# Altium footprint library Magnetics.PcbLib: 15 footprints
Each footprint in its own frame and in the unit in brackets; x right, y up, seen from the top. Pads: shape width x height; smd on the part's side, far side on the other; paste and mask are expansions set on the pad; w line width, h text height; cw(c..) or ccw(c..) is an arc to the next point about the centre after c.
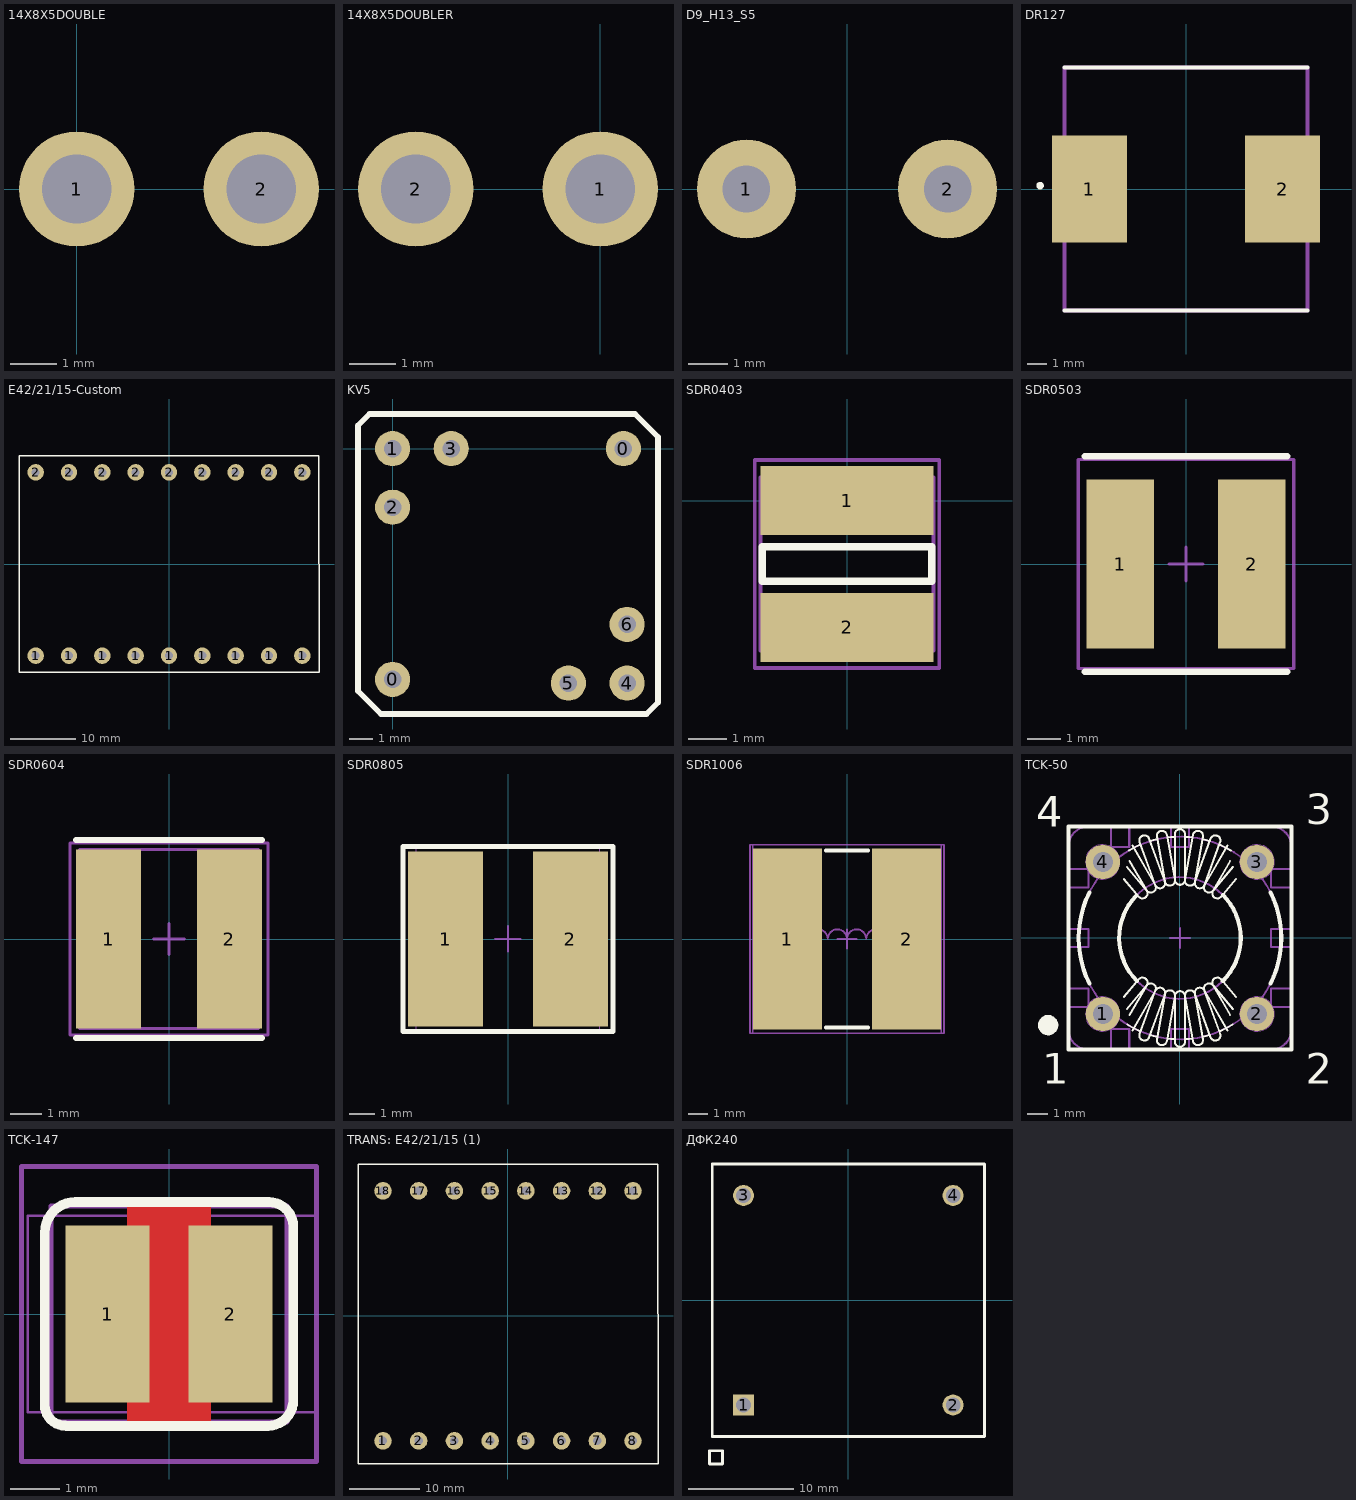
[diagram p0: the footprints below, top view; thin cyan lines are the x and y axes]

## 14X8X5DOUBLE [mm]
pads (2):
  round 2.5 hole 1.5 unplated: 1(0,0) 2(4,0)
3D body "CHOKE.stp": height 12.85, standoff 0.15, extent -1.35,-18.363 15.229,-1.827

## 14X8X5DOUBLER [mm]
pads (2):
  round 2.5 hole 1.5 unplated: 1(0,0) 2(-4,0)
3D body "CHOKE.stp": height 12.7, standoff 0, extent -14.35,-18.363 2.229,-1.827

## D9_H13_S5 [mm]
pads (2):
  round 2.5 hole 1.2: 1(-2.54,0) 2(2.54,0)
3D body "rlb0914_1.stp": height 11.14, standoff -1.56, extent -4.199,-4.199 4.199,4.199

## DR127 [mm]
pads (2):
  rect 3.85x5.5 smd: 1(-4.975,0) 2(4.975,0)
Top Overlay:
  circle w0.2: c-7.516,0.171 r0.092
  lines w0.2: -6.25,-6.25 6.25,-6.25 ; -6.25,6.25 6.25,6.25
Mechanical 13:
  lines w0.2: -6.25,-6.25 6.25,-6.25 6.25,6.25 -6.25,6.25 -6.25,-6.25
3D body "User Library-DR127.step": height 8.01, standoff 0.01, extent -6.25,-6.25 6.25,6.25

## E42/21/15-Custom [mm]
pads (18):
  round 2.5 hole 1.2: 1(-20.32,-13.97) 1(-15.24,-13.97) 1(-10.16,-13.97) 1(-5.08,-13.97) 1(0,-13.97) 1(5.08,-13.97) 1(10.16,-13.97) 1(15.24,-13.97) 1(20.32,-13.97) 2(-20.32,13.97) 2(-15.24,13.97) 2(-10.16,13.97) 2(-5.08,13.97) 2(0,13.97) 2(5.08,13.97) 2(10.16,13.97) 2(15.24,13.97) 2(20.32,13.97)
Top Overlay:
  lines w0.2: -22.86,-16.51 22.86,-16.51 22.86,16.51 -22.86,16.51 -22.86,-16.51
3D body "EER42 9X9.step": height 46.62, standoff -3.5, extent -22.5,-16.05 22.5,16.05

## KV5 [mil]
pads (8):
  round 60 hole 30: 0(0,-393.7) 0(393.7,0) 1(0,0) 2(0,-100) 3(100,0) 4(399.98,-399.98) 5(299.98,-399.98) 6(399.98,-299.98)
Top Overlay:
  lines w10: -59.06,-413.39 -19.69,-452.76 433.07,-452.76 452.76,-433.07 452.76,19.68 413.39,59.06 -39.37,59.06 -59.06,39.37 -59.06,-413.39
3D body "RM5-K-6P-SS.STEP": height 413.89, standoff -71.15, extent -222.97,-622.97 622.97,222.97

## SDR0403 [mm]
pads (2):
  rect 4.5x1.8 smd: 1(0,0) 2(0,-3.3)
Top Overlay:
  lines w0.2: -2.2,-2.1 2.2,-2.1 2.2,-1.2 -2.2,-1.2 -2.2,-2.1
Mechanical 1:
  lines w0.1: -2.25,-3.9 -2.25,0.25 -2.25,0.6 2.25,0.6 2.25,-3.9 -2.25,-3.9
Mechanical 15:
  lines w0.1: -2.4,-4.35 2.4,-4.35 2.4,1.05 -2.4,1.05 -2.4,-4.35
3D body "User Library-SDR0403.STEP": height 3.5, standoff 0, extent -2.25,-3.9 2.25,0.6

## SDR0503 [mm]
pads (2):
  rect 2x5 smd: 1(-1.95,0) 2(1.95,0)
Top Overlay:
  lines w0.2: -3,-3.2 3,-3.2 ; -3,3.2 3,3.2
Mechanical 15:
  lines w0.1: -0.5,0 0.5,0 ; 0,-0.5 0,0.5 ; -3.2,-3.1 -3.2,3.1 3.2,3.1 3.2,-3.1 -3.2,-3.1
3D body "sdr0503-153jl.stp": height 3.01, standoff 0.01, extent -2.5,-2.5 2.5,2.5

## SDR0604 [mm]
pads (2):
  rect 2.1x5.8 smd: 1(-1.95,0) 2(1.95,0)
Top Overlay:
  lines w0.2: -3,-3.2 3,-3.2 ; -3,3.2 3,3.2
Mechanical 1:
  lines w0.1: -2.9,-2.9 -2.9,2.9 2.9,2.9 2.9,-2.9 -2.9,-2.9
Mechanical 15:
  lines w0.1: -0.5,0 0.5,0 ; 0,-0.5 0,0.5 ; -3.2,-3.1 -3.2,3.1 3.2,3.1 3.2,-3.1 -3.2,-3.1
3D body "SDR0604.STEP": height 4.8, standoff 0, extent -2.9,-2.9 2.9,2.9

## SDR0805 [mm]
height 5.3
pads (2):
  rect 3x7 smd: 1(-2.5,0) 2(2.5,0)
Top Overlay:
  lines w0.2: -4.2,-3.7 4.2,-3.7 4.2,3.7 -4.2,3.7 -4.2,-3.7
Mechanical 1:
  lines w0.05: -3.675,-3.75 3.675,-3.75 3.675,3.75 -3.675,3.75 -3.675,-3.75
Mechanical 15:
  lines w0.1: -0.5,0 0.5,0 ; 0,-0.5 0,0.5 ; -4.2,-3.7 -4.2,3.725 4.2,3.725 4.2,-3.7 -4.2,-3.7
3D body "SDR0805.STEP": height 5.08, standoff 0.03, extent -3.677,-3.75 3.677,3.75

## SDR1006 [mm]
pads (2):
  rect 3.6x9.4 smd: 1(-3.1,0) 2(3.1,0)
Top Overlay:
  lines w0.2: -1.1,-4.6 1.1,-4.6 ; -1.1,4.6 1.1,4.6
Mechanical 1:
  lines w0.1: -4.2,0 -3,0 cw(c-2.5,0) -2,0 cw(c-1.5,0) -1,0 cw(c-0.5,0) 0,0 cw(c0.5,0) 1,0 cw(c1.5,0) 2,0 cw(c2.5,0) 3,0 4.2,0 ; -4.9,-4.9 4.9,-4.9 4.9,4.9 -4.9,4.9 -4.9,-4.9
Mechanical 15:
  lines w0.1: -0.5,0 0.5,0 ; 0,-0.5 0,0.5 ; -5.05,-4.9 -5.05,4.9 5.05,4.9 5.05,-4.9 -5.05,-4.9
3D body "SDR1006.STEP": height 5.8, standoff 0, extent -4.9,-4.9 4.9,4.9

## TCK-50 [mm] "Common Mode Choke TCK-048"
height 9.8
pads (4):
  round 1.7 hole 1: 1(-3.8,-3.75) 2(3.8,-3.75) 3(3.8,3.75) 4(-3.8,3.75)
Top Overlay:
  circle w0.5: c-6.5,-4.3 r0.25
  lines w0.1: -2.762,-2.904 -2.039,-2.042 cw(c-1.848,-2.202) -1.657,-2.363 -2.621,-3.512 ; -2.762,2.904 -2.039,2.042 ccw(c-1.848,2.202) -1.657,2.363 -2.621,3.512 ; -2.587,-4.279 ccw(c0,0) -1.943,-4.607 ; -2.513,4.323 cw(c0,0) -1.943,4.607 ; -2.48,-3.795 -1.654,-2.365 cw(c-1.438,-2.489) -1.221,-2.614 -2.347,-4.563 ; -2.48,3.795 -1.654,2.365 ccw(c-1.438,2.489) -1.221,2.614 -2.347,4.563 ; -1.473,-4.778 ccw(c0,0) -1.113,-4.874 ; -1.473,4.778 cw(c0,0) -1.113,4.874 ; -0.621,-4.961 ccw(c0,0) -0.25,-4.994 ; -0.621,4.961 cw(c0,0) -0.25,4.994 ; 0.25,-4.994 ccw(c0,0) 0.621,-4.961 ; 0.25,4.994 cw(c0,0) 0.621,4.961 ; 1.113,-4.875 ccw(c0,0) 1.473,-4.778 ; 1.113,4.875 cw(c0,0) 1.473,4.778 ; 1.942,-4.607 ccw(c0,0) 2.587,-4.279 ; 1.942,4.607 cw(c0,0) 2.513,4.323 ; 2.347,-4.563 1.221,-2.614 cw(c1.438,-2.489) 1.654,-2.365 2.48,-3.795 ; 2.347,4.563 1.221,2.614 ccw(c1.438,2.489) 1.654,2.365 2.48,3.795 ; 2.621,-3.512 1.657,-2.363 cw(c1.848,-2.202) 2.039,-2.042 2.762,-2.904 ; 2.621,3.512 1.657,2.363 ccw(c1.848,2.202) 2.039,2.042 2.762,2.904 ; -1.988,4.732 cw(c-1.751,4.809) -1.518,4.901 -0.749,2.787 cw(c-0.983,2.701) -1.218,2.616 -1.988,4.732 ; -1.987,-4.731 ccw(c-1.75,-4.809) -1.519,-4.903 -0.748,-2.787 ccw(c-0.983,-2.701) -1.218,-2.616 -1.987,-4.731 ; -1.136,5.005 cw(c-0.889,5.04) -0.644,5.091 -0.253,2.875 cw(c-0.499,2.831) -0.745,2.788 -1.136,5.005 ; -1.136,-5.004 ccw(c-0.888,-5.04) -0.644,-5.092 -0.253,-2.875 ccw(c-0.499,-2.831) -0.745,-2.788 -1.136,-5.004 ; -0.25,2.875 ccw(c0,2.875) 0.25,2.875 0.25,5.125 ccw(c0,5.117) -0.25,5.127 -0.25,2.875 ; -0.25,-5.125 ccw(c0,-5.117) 0.25,-5.127 0.25,-2.875 ccw(c0,-2.875) -0.25,-2.875 -0.25,-5.125 ; 0.253,2.875 ccw(c0.499,2.831) 0.745,2.788 1.136,5.004 ccw(c0.888,5.04) 0.644,5.092 0.253,2.875 ; 0.253,-2.875 cw(c0.499,-2.831) 0.745,-2.788 1.136,-5.005 cw(c0.889,-5.04) 0.644,-5.091 0.253,-2.875 ; 0.748,2.787 ccw(c0.983,2.701) 1.218,2.616 1.987,4.731 ccw(c1.75,4.809) 1.519,4.903 0.748,2.787 ; 0.749,-2.787 cw(c0.983,-2.701) 1.218,-2.616 1.988,-4.732 cw(c1.751,-4.809) 1.518,-4.901 0.749,-2.787
  lines w0.2: -4.465,-2.25 cw(c0,0) -4.465,2.25 ; -2.164,2.078 ccw(c0,0) -2.121,-2.121 ; 2.114,-2.129 ccw(c0,0) 2.12,2.123 ; 4.465,-2.25 ccw(c0,0) 4.465,2.25 ; -5.5,-5.5 5.5,-5.5 5.5,5.5 -5.5,5.5 -5.5,-5.5
  text "1" at -6.8,-7.2 h1.5
  text "3" at 6.2,5.6 h1.5
  text "2" at 6.2,-7.2 h1.5
  text "4" at -7.1,5.5 h1.5
Mechanical 8:
  circle w0.05: c-3.81,3.75 r0.85
  circle w0.05: c3.81,3.75 r0.85
  circle w0.05: c3.81,-3.75 r0.85
  circle w0.05: c-3.81,-3.75 r0.85
  lines w0.05: -4.31,-3.75 -3.81,-3.75 ; -4.31,3.75 -3.81,3.75 ; -3.81,-4.25 -3.81,-3.75 ; -3.81,-3.25 -3.81,-3.75 ; -3.81,3.25 -3.81,3.75 ; -3.81,4.25 -3.81,3.75 ; -3.31,-3.75 -3.81,-3.75 ; -3.31,3.75 -3.81,3.75 ; 3.31,-3.75 3.81,-3.75 ; 3.31,3.75 3.81,3.75 ; 3.81,-4.25 3.81,-3.75 ; 3.81,-3.25 3.81,-3.75 ; 3.81,3.25 3.81,3.75 ; 3.81,4.25 3.81,3.75 ; 4.31,-3.75 3.81,-3.75 ; 4.31,3.75 3.81,3.75
  lines w0.1: -0.5,0 0,0 ; 0,-0.5 0,0 ; 0,0.5 0,0 ; 0.5,0 0,0
Mechanical 14:
  circle w0.1: c0,0 r3
  circle w0.1: c0,0 r5
  lines w0.1: -5.5,-4.5 ccw(c-4.5,-4.5) -4.5,-5.5 -3.4,-5.5 -3.4,-4.5 -2.5,-4.5 -2.5,-5.5 -0.45,-5.5 -0.45,-4.5 0.45,-4.5 0.45,-5.5 4.5,-5.5 ccw(c4.5,-4.5) 5.5,-4.5 5.5,-3.4 4.5,-3.4 4.5,-2.5 5.5,-2.5 5.5,-0.45 4.5,-0.45 4.5,0.45 5.5,0.45 5.5,2.5 4.5,2.5 4.5,3.4 5.5,3.4 5.5,4.5 ccw(c4.5,4.5) 4.5,5.5 0.45,5.5 0.45,4.5 -0.45,4.5 -0.45,5.5 -2.5,5.5 -2.5,4.5 -3.4,4.5 -3.4,5.5 -4.5,5.5 ccw(c-4.5,4.5) -5.5,4.5 -5.5,3.4 -4.5,3.4 -4.5,2.5 -5.5,2.5 -5.5,0.45 -4.5,0.45 -4.5,-0.45 -5.5,-0.45 -5.5,-2.5 -4.5,-2.5 -4.5,-3.4 -5.5,-3.4 -5.5,-4.5
3D body "IND_TRACO_TCK-048.stp": height 9.86, standoff -3.6, extent -5.5,-5.5 5.5,5.5

## TCK-147 [mm]
height 5
pads (2):
  rect 1.7x3.6 smd: 1(-1.25,0) 2(1.25,0)
Top Layer:
  pour cut-out: -0.85,2.25 0.85,2.25 0.85,-2.25 -0.85,-2.25
Top Overlay:
  lines w0.2: -2.11,-2.27 cw(c-2.11,-1.855) -2.525,-1.855 -2.525,1.655 cw(c-1.9,1.655) -1.9,2.28 ; -2.085,-2.275 2.013,-2.275 ccw(c2.013,-1.763) 2.525,-1.763 2.525,1.75 ; -1.9,2.275 2.034,2.275 cw(c2.034,1.782) 2.526,1.782
Mechanical 7:
  lines w0.05: 2.5,-2 2.5,2 ; 3,-2 -2.875,-2 -2.875,2 3,2
Mechanical 13:
  lines w0.1: -2.4,-2.2 -2.4,2.2 2.4,2.2 2.4,-2.2 -2.4,-2.2
Mechanical 15:
  lines w0.1: -1.25,0 1.25,0 ; 0,-1.25 0,1.25 ; -3,-3 3,-3 3,3 -3,3 -3,-3
3D body "User Library-CD43NP.step": height 3.5, standoff 0, extent -2.4,-2.15 2.4,2.15

## TRANS: E42/21/15 (1) [mm]
pads (16):
  round 2.5 hole 1.2: 1(-17.78,-17.78) 2(-12.7,-17.78) 3(-7.62,-17.78) 4(-2.54,-17.78) 5(2.54,-17.78) 6(7.62,-17.78) 7(12.7,-17.78) 8(17.78,-17.78) 11(17.78,17.78) 12(12.7,17.78) 13(7.62,17.78) 14(2.54,17.78) 15(-2.54,17.78) 16(-7.62,17.78) 17(-12.7,17.78) 18(-17.78,17.78)
Top Overlay:
  lines w0.2: -21.336,-21.082 -21.336,21.59 21.336,21.59 21.336,-21.082 -21.336,-21.082
3D body "User Library-EER42_Transformer.STEP": height 34.26, standoff -1.99, extent -21.118,-20.846 21.082,21.354

## ДФК240 [mm]
pads (4):
  rect 2x2 hole 1.4 unplated: 1(-10,-10)
  round 2 hole 1.4 unplated: 2(10,-10) 3(-10,10) 4(10,10)
Top Overlay:
  lines w0.25: -13.25,-15.625 -12,-15.625 -12,-14.375 -13.25,-14.375 -13.25,-15.625 ; -13,-13 13,-13 13,13 -13,13 -13,-13
3D body "DFK240.stp": height 12.5, standoff -2, extent -13,-13 13,13